# EAGLE library part IRF7905 (library NEON-BLADE-2024)
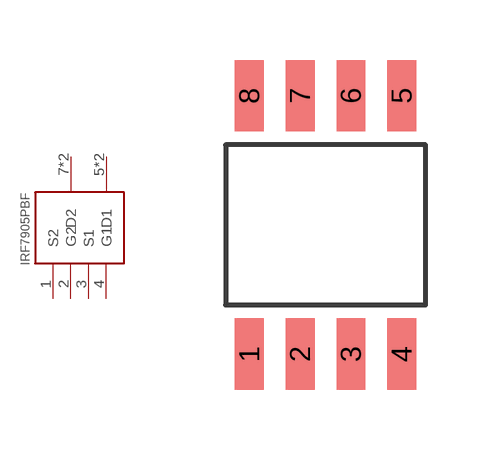
[diagram p6: symbol with the pads of SO8; footprint SO8]

Designator prefix -

## IRF7905  [SO8]
1  S2
2  G2
3  S1
4  G1
5  D1
6  D1
7  D2
8  D2

## Footprint SO8 (pad centres in mm)
smd 0.72 x 1.78: 1 -1.905,-3.23; 2 -0.635,-3.23; 3 0.635,-3.23; 4 1.905,-3.23; 5 1.905,3.23; 6 0.635,3.23; 7 -0.635,3.23; 8 -1.905,3.23